# EAGLE library part TSEM_R1 (library TSEM)
Tiny Solar Energy Module R1
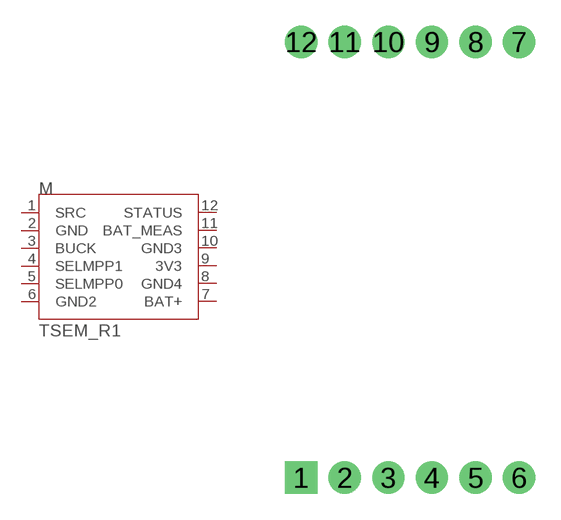
[diagram p0: symbol with the pads of TSEM_R1; footprint TSEM_R1]

Designator prefix M

## TSEM_R1 (MF: Jasper Sikken; MPN: TSEM_R1)  [TSEM_R1]
1  SRC
2  GND
3  BUCK
4  SELMPP1
5  SELMPP0
6  GND2
7  BAT+
8  GND4
9  3V3
10  GND3
11  BAT_MEAS
12  STATUS

## Footprint TSEM_R1 (pad centres in mm)
Tiny Solar Energy Module R1
drill 1.016 pad 1.88 square: 1 0,0
drill 1.016 pad 1.88: 2 2.54,0; 3 5.08,0; 4 7.62,0; 5 10.16,0; 6 12.7,0; 7 12.7,25.4; 8 10.16,25.4; 9 7.62,25.4; 10 5.08,25.4; 11 2.54,25.4; 12 0,25.4